# Altium footprint library WeAct-ESP32C5-A.PcbLib: 1 footprints
Each footprint in its own frame and in the unit in brackets; x right, y up, seen from the top. Pads: shape width x height; smd on the part's side, far side on the other; paste and mask are expansions set on the pad; w line width, h text height; cw(c..) or ccw(c..) is an arc to the next point about the centre after c.
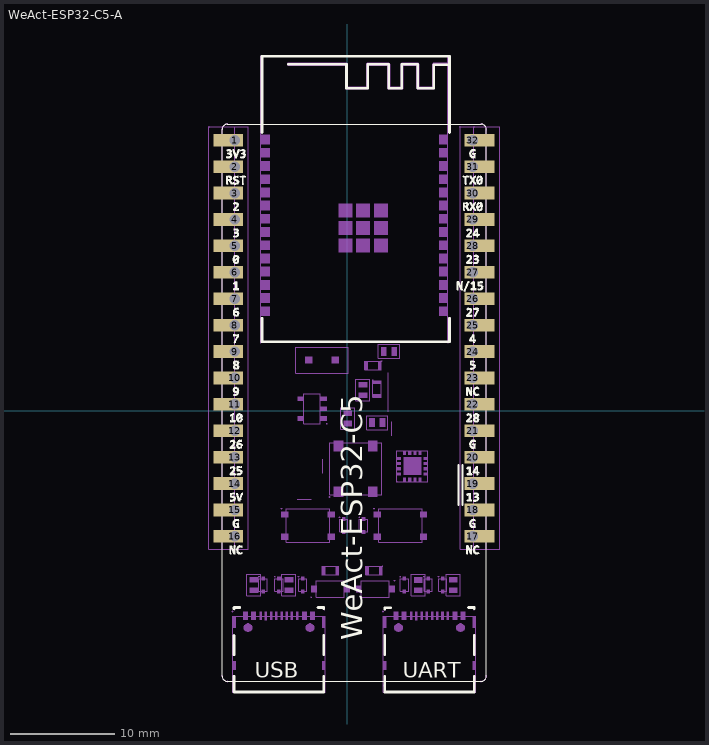
[diagram p0: the footprint, top view; thin cyan lines are the x and y axes]

## WeAct-ESP32-C5-A [mil]
pads (32):
  rect 113x48 hole 39.37 copper offset -25,0 paste+0 mask+2: 1(-425,1025) 2(-425,925) 3(-425,825) 4(-425,725) 5(-425,625) 6(-425,525) 7(-425,425) 8(-425,325) 9(-425,225) 10(-425,125) 11(-425,25) 12(-425,-75) 13(-425,-175) 14(-425,-275) 15(-425,-375) 16(-425,-475)
  rect 113x48 hole 39.37 copper offset 25,0 paste+0 mask+2: 17(476,-475) 18(476,-375) 19(476,-275) 20(476,-175) 21(476,-75) 22(476,25) 23(476,125) 24(476,225) 25(476,325) 26(476,425) 27(476,525) 28(476,625) 29(476,725) 30(476,825) 31(476,925) 32(476,1025)
Top Overlay:
  drawing of 17317 lines, arcs and shapes, not listed
  text "USB" at -350,-1010 h60
  text "UART" at 210,-1010 h60
  text "WeAct-ESP32-C5" at 58,-868 h80
Mechanical 6:
  region: -222.61,1317.5 -2.61,1317.5 -1.62,1317.5 0.22,1316.74 1.63,1315.33 2.39,1313.49 2.39,1312.5 2.39,1227.5 72.39,1227.5 72.39,1312.5 72.39,1313.49 73.15,1315.33 74.56,1316.74 76.39,1317.5 77.39,1317.5 157.39,1317.5 158.38,1317.5 160.22,1316.74 161.63,1315.33 162.39,1313.49 162.39,1312.5 162.39,1227.5 202.39,1227.5 202.39,1312.5 202.39,1313.49 203.15,1315.33 204.56,1316.74 206.39,1317.5 207.39,1317.5 267.39,1317.5 268.38,1317.5 270.22,1316.74 271.63,1315.33 272.39,1313.49 272.39,1312.5 272.39,1227.5 322.39,1227.5 322.39,1312.5 322.39,1313.49 323.15,1315.33 324.56,1316.74 326.39,1317.5 327.39,1317.5 387.39,1317.5 389.46,1317.5 392.39,1314.57 392.39,1310.43 389.46,1307.5 387.39,1307.5 332.39,1307.5 332.39,1222.5 332.39,1221.51 331.63,1219.67 330.22,1218.26 328.38,1217.5 327.39,1217.5 267.39,1217.5 266.39,1217.5 264.56,1218.26 263.15,1219.67 262.39,1221.51 262.39,1222.5 262.39,1307.5 212.39,1307.5 212.39,1222.5 212.39,1221.51 211.63,1219.67 210.22,1218.26 208.38,1217.5 207.39,1217.5 157.39,1217.5 156.39,1217.5 154.56,1218.26 153.15,1219.67 152.39,1221.51 152.39,1222.5 152.39,1307.5 82.39,1307.5 82.39,1222.5 82.39,1221.51 81.63,1219.67 80.22,1218.26 78.38,1217.5 77.39,1217.5 -2.61,1217.5 -3.61,1217.5 -5.44,1218.26 -6.85,1219.67 -7.61,1221.51 -7.61,1222.5 -7.61,1307.5 -222.61,1307.5 -224.68,1307.5 -227.61,1310.43 -227.61,1314.57 -224.68,1317.5 -222.61,1317.5
Mechanical 7:
  circle w2: c429.13,-820.59 r6.89
  circle w2: c194.48,-820.59 r6.89
  circle w2: c-140.87,-820.59 r6.89
  circle w2: c-375.52,-820.59 r6.89
  lines w2: -189.78,-334.35 -136.63,-334.35 ; -92.85,-235.58 -92.85,-182.43 ; 155.95,-2.77 155.95,145.23 ; 167.95,-93.69 167.95,-40.53 ; -523.61,-524.5 -425.19,-524.5 -425.19,1075.5 -523.61,1075.5 -523.61,-524.5 ; -472.66,-524.5 -374.23,-524.5 -374.23,1075.5 -472.66,1075.5 -472.66,-524.5 ; -433.2,-1064.79 -82.81,-1064.79 -82.81,-777.39 -433.2,-777.39 -433.2,-1064.79 ; -379.77,-699.36 -379.77,-618.65 -326.62,-618.65 -326.62,-699.36 -379.77,-699.36 ; -333.95,-682.62 -302.45,-682.62 -302.45,-635.38 -333.95,-635.38 -333.95,-682.62 ; -326.94,259.59 -326.94,1342.26 381.72,1342.26 381.72,259.59 -326.94,259.59 ; -273.95,-682.62 -242.45,-682.62 -242.45,-635.38 -273.95,-635.38 -273.95,-682.62 ; -247.12,-699.36 -247.12,-618.65 -193.97,-618.65 -193.97,-699.36 -247.12,-699.36 ; -230.88,-497.98 -230.88,-370.02 -65.52,-370.02 -65.52,-497.98 -230.88,-497.98 ; -195.36,143.29 4.64,143.29 4.64,241.71 -195.36,241.71 -195.36,143.29 ; -183.95,-682.62 -152.45,-682.62 -152.45,-635.38 -183.95,-635.38 -183.95,-682.62 ; -164.3,-48.42 -101.3,-48.42 -101.3,65.75 -164.3,65.75 -164.3,-48.42 ; -116.15,-705.5 -10.25,-705.5 -10.25,-642.51 -116.15,-642.51 -116.15,-705.5 ; -94.7,-619.75 -94.7,-588.25 -31.7,-588.25 -31.7,-619.75 -94.7,-619.75 ; -66.62,-317.43 -66.62,-120.58 130.22,-120.58 130.22,-317.43 -66.62,-317.43 ; -28.95,-457.62 2.55,-457.62 2.55,-410.38 -28.95,-410.38 -28.95,-457.62 ; -24.32,-68.45 -24.32,12.26 28.83,12.26 28.83,-68.45 -24.32,-68.45 ; 33.26,38.61 33.26,119.32 86.41,119.32 86.41,38.61 33.26,38.61 ; 46.05,-457.62 77.55,-457.62 77.55,-410.38 46.05,-410.38 46.05,-457.62 ; 53.85,-705.49 53.85,-642.5 159.75,-642.5 159.75,-705.49 53.85,-705.49 ; 66.59,156.75 129.58,156.75 129.58,188.25 66.59,188.25 66.59,156.75 ; 70.3,-619.75 133.3,-619.75 133.3,-588.25 70.3,-588.25 70.3,-619.75 ; 73.75,-70.65 154.46,-70.65 154.46,-17.5 73.75,-17.5 73.75,-70.65 ; 96.93,52.16 128.42,52.16 128.42,115.16 96.93,115.16 96.93,52.16 ; 117.75,198.93 198.46,198.93 198.46,252.08 117.75,252.08 117.75,198.93 ; 119.12,-497.98 119.12,-370.02 284.48,-370.02 284.48,-497.98 119.12,-497.98 ; 136.8,-1064.79 487.19,-1064.79 487.19,-777.39 136.8,-777.39 136.8,-1064.79 ; 187.75,-268.05 305.86,-268.05 305.86,-149.94 187.75,-149.94 187.75,-268.05 ; 201.05,-682.62 232.55,-682.62 232.55,-635.38 201.05,-635.38 201.05,-682.62 ; 242.57,-699.73 242.57,-619.02 295.72,-619.02 295.72,-699.73 242.57,-699.73 ; 291.05,-682.62 322.55,-682.62 322.55,-635.38 291.05,-635.38 291.05,-682.62 ; 346.05,-682.62 377.55,-682.62 377.55,-635.38 346.05,-635.38 346.05,-682.62 ; 375.23,-699.36 375.23,-618.65 428.38,-618.65 428.38,-699.36 375.23,-699.36 ; 427.34,-524.5 525.77,-524.5 525.77,1075.5 427.34,1075.5 427.34,-524.5 ; 479.39,-524.5 577.81,-524.5 577.81,1075.5 479.39,1075.5 479.39,-524.5
Mechanical 8:
  drawing of 26 lines, arcs and shapes, not listed
Mechanical 9:
  drawing of 217 lines, arcs and shapes, not listed
Mechanical 10:
  region: 47.31,-662.18 54.05,-662.18 54.05,-685.8 47.31,-685.8
  region: 166.28,-685.82 159.55,-685.82 159.55,-662.2 166.28,-662.2
  region: -3.71,-685.82 -10.45,-685.82 -10.45,-662.2 -3.71,-662.2
  region: -122.69,-662.18 -115.95,-662.18 -115.95,-685.8 -122.69,-685.8
  region: -95,0.79 -101.7,0.79 -101.7,16.54 -95,16.54
  region: -95,38.19 -101.7,38.19 -101.7,53.94 -95,53.94
  region: -95,-36.61 -101.7,-36.61 -101.7,-20.86 -95,-20.86
  region: -163.9,38.19 -170.59,38.19 -170.59,53.94 -163.9,53.94
  region: -163.9,-36.61 -170.59,-36.61 -170.59,-20.86 -163.9,-20.86
Mechanical 16:
  lines w3.94: -473.2,-1004.31 ccw(c-453.51,-1004.31) -453.51,-1024 ; -473.2,1066.55 cw(c-453.51,1066.55) -453.51,1086.24 ; -327.53,348.05 -327.53,259.46 381.13,259.46 381.13,348.05 ; 507.11,-1024 ccw(c507.11,-1004.31) 526.8,-1004.31 ; 507.11,1086.24 cw(c507.11,1066.55) 526.8,1066.55 ; -474.45,-1004.31 cw(c-473.2,-1004.31) -471.95,-1004.31 ; -474.45,-1004.31 ccw(c-473.2,-1004.31) -471.95,-1004.31 ; -474.45,-1004.31 cw(c-473.2,-1004.31) -471.95,-1004.31 ; -474.45,-1004.31 ccw(c-473.2,-1004.31) -471.95,-1004.31 ; -474.45,-1004.31 cw(c-473.2,-1004.31) -471.95,-1004.31 ; -474.45,-1004.31 ccw(c-473.2,-1004.31) -471.95,-1004.31 ; -474.45,-1004.31 cw(c-473.2,-1004.31) -471.95,-1004.31 ; -474.45,-1004.31 ccw(c-473.2,-1004.31) -471.95,-1004.31 ; -474.45,1066.55 cw(c-473.2,1066.55) -471.95,1066.55 ; -474.45,1066.55 ccw(c-473.2,1066.55) -471.95,1066.55 ; -474.45,1066.55 cw(c-473.2,1066.55) -471.95,1066.55 ; -474.45,1066.55 ccw(c-473.2,1066.55) -471.95,1066.55 ; -474.45,1066.55 cw(c-473.2,1066.55) -471.95,1066.55 ; -474.45,1066.55 ccw(c-473.2,1066.55) -471.95,1066.55 ; -474.45,1066.55 cw(c-473.2,1066.55) -471.95,1066.55 ; -474.45,1066.55 ccw(c-473.2,1066.55) -471.95,1066.55 ; -454.76,-1024 cw(c-453.51,-1024) -452.26,-1024 ; -454.76,-1024 ccw(c-453.51,-1024) -452.26,-1024 ; -454.76,-1024 cw(c-453.51,-1024) -452.26,-1024 ; -454.76,-1024 ccw(c-453.51,-1024) -452.26,-1024 ; -454.76,-1024 cw(c-453.51,-1024) -452.26,-1024 ; -454.76,-1024 ccw(c-453.51,-1024) -452.26,-1024 ; -454.76,-1024 cw(c-453.51,-1024) -452.26,-1024 ; -454.76,-1024 ccw(c-453.51,-1024) -452.26,-1024 ; -454.76,1086.24 cw(c-453.51,1086.24) -452.26,1086.24 ; -454.76,1086.24 ccw(c-453.51,1086.24) -452.26,1086.24 ; -454.76,1086.24 cw(c-453.51,1086.24) -452.26,1086.24 ; -454.76,1086.24 ccw(c-453.51,1086.24) -452.26,1086.24 ; -454.76,1086.24 cw(c-453.51,1086.24) -452.26,1086.24 ; -454.76,1086.24 ccw(c-453.51,1086.24) -452.26,1086.24 ; -454.76,1086.24 cw(c-453.51,1086.24) -452.26,1086.24 ; -454.76,1086.24 ccw(c-453.51,1086.24) -452.26,1086.24 ; -427.94,-1039.75 cw(c-426.94,-1039.75) -425.94,-1039.75 ; -427.94,-1039.75 ccw(c-426.94,-1039.75) -425.94,-1039.75 ; -427.94,-1039.75 cw(c-426.94,-1039.75) -425.94,-1039.75 ; -427.94,-1039.75 ccw(c-426.94,-1039.75) -425.94,-1039.75 ; 138.99,-1039.75 cw(c139.99,-1039.75) 140.99,-1039.75 ; 138.99,-1039.75 ccw(c139.99,-1039.75) 140.99,-1039.75 ; 138.99,-1039.75 cw(c139.99,-1039.75) 140.99,-1039.75 ; 138.99,-1039.75 ccw(c139.99,-1039.75) 140.99,-1039.75 ; 505.86,-1024 cw(c507.11,-1024) 508.36,-1024 ; 505.86,-1024 ccw(c507.11,-1024) 508.36,-1024 ; 505.86,-1024 cw(c507.11,-1024) 508.36,-1024 ; 505.86,-1024 ccw(c507.11,-1024) 508.36,-1024 ; 505.86,-1024 cw(c507.11,-1024) 508.36,-1024 ; 505.86,-1024 ccw(c507.11,-1024) 508.36,-1024 ; 505.86,-1024 cw(c507.11,-1024) 508.36,-1024 ; 505.86,-1024 ccw(c507.11,-1024) 508.36,-1024 ; 505.86,1086.24 cw(c507.11,1086.24) 508.36,1086.24 ; 505.86,1086.24 ccw(c507.11,1086.24) 508.36,1086.24 ; 505.86,1086.24 cw(c507.11,1086.24) 508.36,1086.24 ; 505.86,1086.24 ccw(c507.11,1086.24) 508.36,1086.24 ; 505.86,1086.24 cw(c507.11,1086.24) 508.36,1086.24 ; 505.86,1086.24 ccw(c507.11,1086.24) 508.36,1086.24 ; 505.86,1086.24 cw(c507.11,1086.24) 508.36,1086.24 ; 505.86,1086.24 ccw(c507.11,1086.24) 508.36,1086.24 ; 525.55,-1004.31 cw(c526.8,-1004.31) 528.05,-1004.31 ; 525.55,-1004.31 ccw(c526.8,-1004.31) 528.05,-1004.31 ; 525.55,-1004.31 cw(c526.8,-1004.31) 528.05,-1004.31 ; 525.55,-1004.31 ccw(c526.8,-1004.31) 528.05,-1004.31 ; 525.55,-1004.31 cw(c526.8,-1004.31) 528.05,-1004.31 ; 525.55,-1004.31 ccw(c526.8,-1004.31) 528.05,-1004.31 ; 525.55,-1004.31 cw(c526.8,-1004.31) 528.05,-1004.31 ; 525.55,-1004.31 ccw(c526.8,-1004.31) 528.05,-1004.31 ; 525.55,1066.55 cw(c526.8,1066.55) 528.05,1066.55 ; 525.55,1066.55 ccw(c526.8,1066.55) 528.05,1066.55 ; 525.55,1066.55 cw(c526.8,1066.55) 528.05,1066.55 ; 525.55,1066.55 ccw(c526.8,1066.55) 528.05,1066.55 ; 525.55,1066.55 cw(c526.8,1066.55) 528.05,1066.55 ; 525.55,1066.55 ccw(c526.8,1066.55) 528.05,1066.55 ; 525.55,1066.55 cw(c526.8,1066.55) 528.05,1066.55 ; 525.55,1066.55 ccw(c526.8,1066.55) 528.05,1066.55 ; -427.94,-752.35 cw(c-426.94,-752.35) -425.94,-752.35 cw(c-426.94,-752.35) -427.94,-752.35 ; -328.53,259.46 cw(c-327.53,259.46) -326.53,259.46 cw(c-327.53,259.46) -328.53,259.46 ; -328.53,348.05 cw(c-327.53,348.05) -326.53,348.05 cw(c-327.53,348.05) -328.53,348.05 ; -328.53,1086.24 cw(c-327.53,1086.24) -326.53,1086.24 cw(c-327.53,1086.24) -328.53,1086.24 ; -87.39,-1039.75 cw(c-86.39,-1039.75) -85.39,-1039.75 cw(c-86.39,-1039.75) -87.39,-1039.75 ; -87.39,-752.35 cw(c-86.39,-752.35) -85.39,-752.35 cw(c-86.39,-752.35) -87.39,-752.35 ; 142.06,-753.02 cw(c143.06,-753.02) 144.06,-753.02 cw(c143.06,-753.02) 142.06,-753.02 ; 380.13,259.46 cw(c381.13,259.46) 382.13,259.46 cw(c381.13,259.46) 380.13,259.46 ; 380.13,348.05 cw(c381.13,348.05) 382.13,348.05 cw(c381.13,348.05) 380.13,348.05 ; 479.54,-1039.75 cw(c480.54,-1039.75) 481.54,-1039.75 cw(c480.54,-1039.75) 479.54,-1039.75 ; 479.54,-752.35 cw(c480.54,-752.35) 481.54,-752.35 cw(c480.54,-752.35) 479.54,-752.35